# Altium footprint library Connector_PinHeader_2.54mm.PcbLib: 278 footprints (part 14 of 18)
Each footprint in its own frame and in the unit in brackets; x right, y up, seen from the top. Pads: shape width x height; smd on the part's side, far side on the other; paste and mask are expansions set on the pad; w line width, h text height; cw(c..) or ccw(c..) is an arc to the next point about the centre after c.
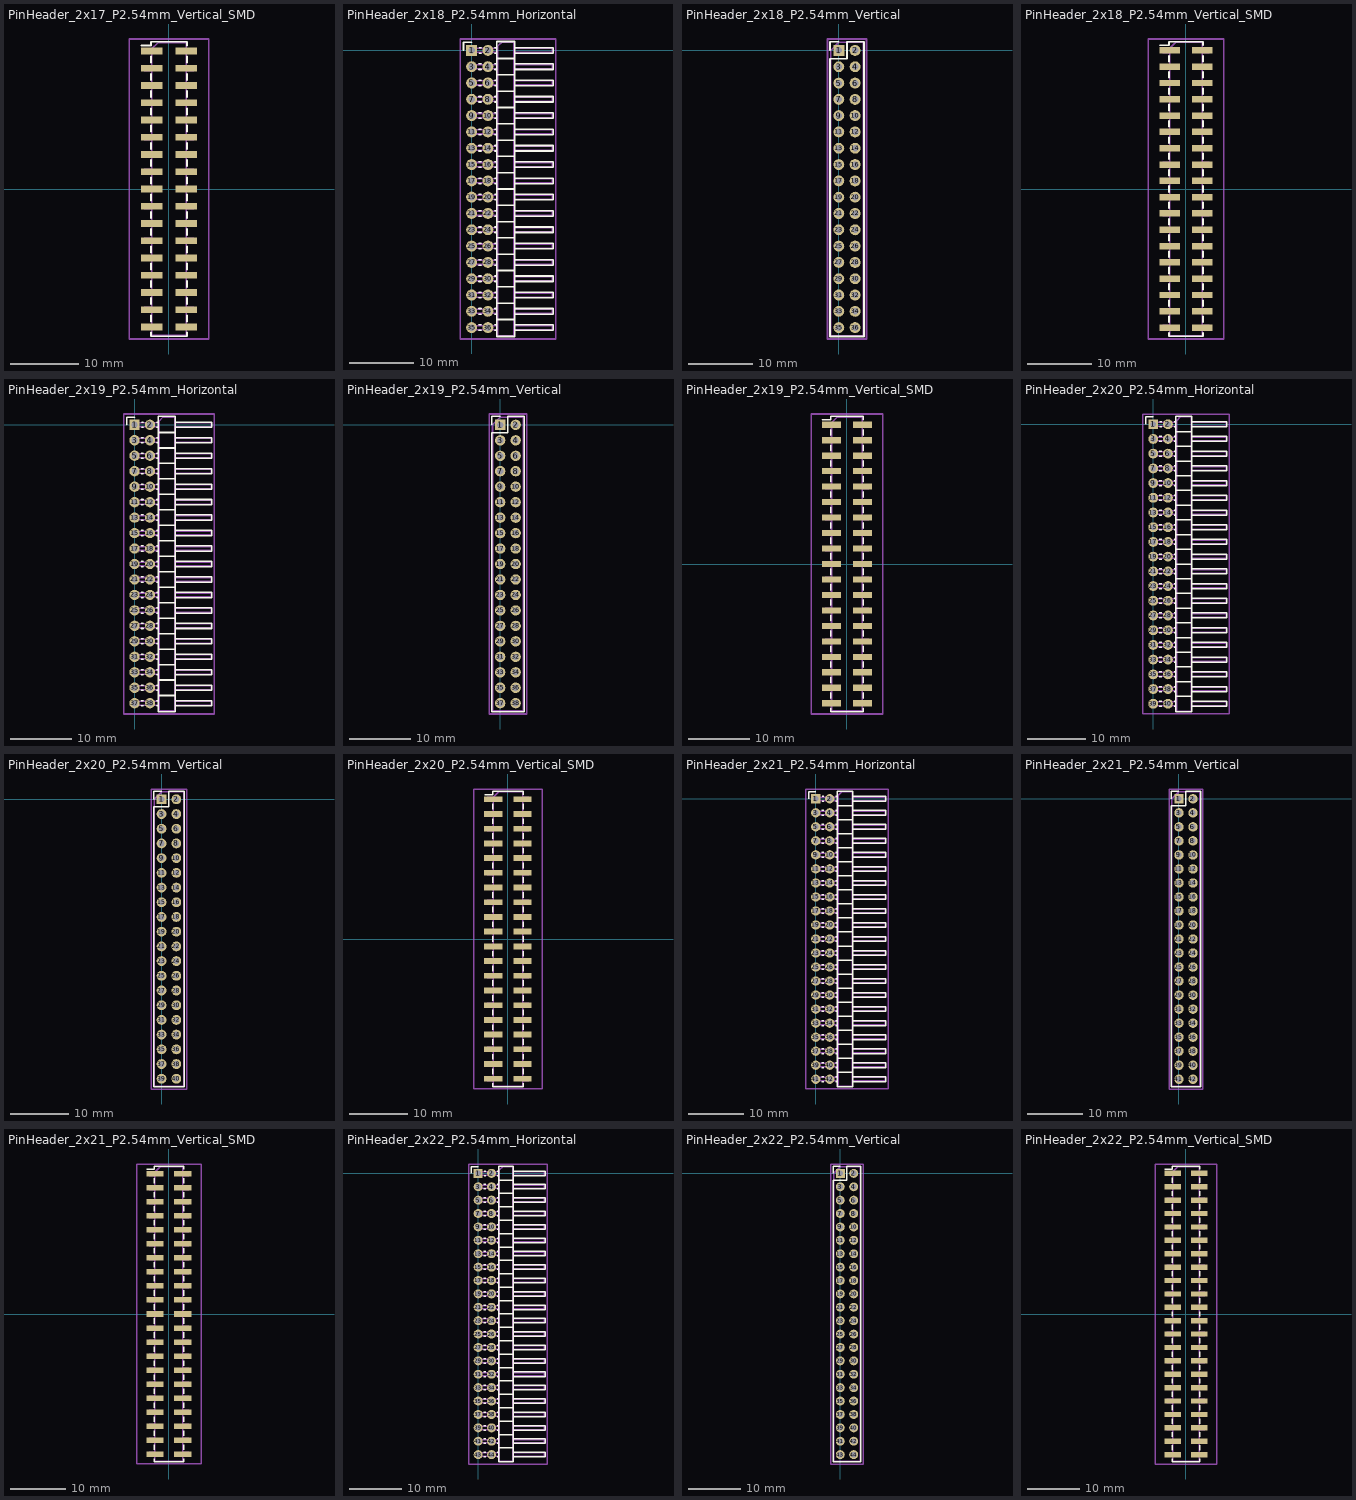
[diagram p13: the footprints below, top view; thin cyan lines are the x and y axes]

## PinHeader_2x17_P2.54mm_Vertical_SMD [mm]
pads (34):
  rect 3.15x1 smd: 1(-2.525,20.32) 2(2.525,20.32) 3(-2.525,17.78) 4(2.525,17.78) 5(-2.525,15.24) 6(2.525,15.24) 7(-2.525,12.7) 8(2.525,12.7) 9(-2.525,10.16) 10(2.525,10.16) 11(-2.525,7.62) 12(2.525,7.62) 13(-2.525,5.08) 14(2.525,5.08) 15(-2.525,2.54) 16(2.525,2.54) 17(-2.525,0) 18(2.525,0) 19(-2.525,-2.54) 20(2.525,-2.54) 21(-2.525,-5.08) 22(2.525,-5.08) 23(-2.525,-7.62) 24(2.525,-7.62) 25(-2.525,-10.16) 26(2.525,-10.16) 27(-2.525,-12.7) 28(2.525,-12.7) 29(-2.525,-15.24) 30(2.525,-15.24) 31(-2.525,-17.78) 32(2.525,-17.78) 33(-2.525,-20.32) 34(2.525,-20.32)
F.SilkS:
  lines w0.254: -4.04,21.13 -2.65,21.13 -2.65,21.7 2.65,21.7 2.65,21.13 ; -2.65,-21.13 -2.65,-21.7 2.65,-21.7 2.65,-21.13 ; -2.65,-19.51 -2.65,-18.59 ; -2.65,-16.97 -2.65,-16.05 ; -2.65,-14.43 -2.65,-13.51 ; -2.65,-11.89 -2.65,-10.97 ; -2.65,-9.35 -2.65,-8.43 ; -2.65,-6.81 -2.65,-5.89 ; -2.65,-4.27 -2.65,-3.35 ; -2.65,-1.73 -2.65,-0.81 ; -2.65,0.81 -2.65,1.73 ; -2.65,3.35 -2.65,4.27 ; -2.65,5.89 -2.65,6.81 ; -2.65,8.43 -2.65,9.35 ; -2.65,10.97 -2.65,11.89 ; -2.65,13.51 -2.65,14.43 ; -2.65,16.05 -2.65,16.97 ; -2.65,18.59 -2.65,19.51 ; 2.65,-19.51 2.65,-18.59 ; 2.65,-16.97 2.65,-16.05 ; 2.65,-14.43 2.65,-13.51 ; 2.65,-11.89 2.65,-10.97 ; 2.65,-9.35 2.65,-8.43 ; 2.65,-6.81 2.65,-5.89 ; 2.65,-4.27 2.65,-3.35 ; 2.65,-1.73 2.65,-0.81 ; 2.65,0.81 2.65,1.73 ; 2.65,3.35 2.65,4.27 ; 2.65,5.89 2.65,6.81 ; 2.65,8.43 2.65,9.35 ; 2.65,10.97 2.65,11.89 ; 2.65,13.51 2.65,14.43 ; 2.65,16.05 2.65,16.97 ; 2.65,18.59 2.65,19.51
Top Assembly:
  lines w0.254: -2.54,-20.64 -3.6,-20.64 -3.6,-20 -2.54,-20 ; -2.54,-18.1 -3.6,-18.1 -3.6,-17.46 -2.54,-17.46 ; -2.54,-15.56 -3.6,-15.56 -3.6,-14.92 -2.54,-14.92 ; -2.54,-13.02 -3.6,-13.02 -3.6,-12.38 -2.54,-12.38 ; -2.54,-10.48 -3.6,-10.48 -3.6,-9.84 -2.54,-9.84 ; -2.54,-7.94 -3.6,-7.94 -3.6,-7.3 -2.54,-7.3 ; -2.54,-5.4 -3.6,-5.4 -3.6,-4.76 -2.54,-4.76 ; -2.54,-2.86 -3.6,-2.86 -3.6,-2.22 -2.54,-2.22 ; -2.54,-0.32 -3.6,-0.32 -3.6,0.32 -2.54,0.32 ; -2.54,2.22 -3.6,2.22 -3.6,2.86 -2.54,2.86 ; -2.54,4.76 -3.6,4.76 -3.6,5.4 -2.54,5.4 ; -2.54,7.3 -3.6,7.3 -3.6,7.94 -2.54,7.94 ; -2.54,9.84 -3.6,9.84 -3.6,10.48 -2.54,10.48 ; -2.54,12.38 -3.6,12.38 -3.6,13.02 -2.54,13.02 ; -2.54,14.92 -3.6,14.92 -3.6,15.56 -2.54,15.56 ; -2.54,17.46 -3.6,17.46 -3.6,18.1 -2.54,18.1 ; -2.54,20 -3.6,20 -3.6,20.64 -2.54,20.64 ; 2.54,-20.64 3.6,-20.64 3.6,-20 2.54,-20 ; 2.54,-18.1 3.6,-18.1 3.6,-17.46 2.54,-17.46 ; 2.54,-15.56 3.6,-15.56 3.6,-14.92 2.54,-14.92 ; 2.54,-13.02 3.6,-13.02 3.6,-12.38 2.54,-12.38 ; 2.54,-10.48 3.6,-10.48 3.6,-9.84 2.54,-9.84 ; 2.54,-7.94 3.6,-7.94 3.6,-7.3 2.54,-7.3 ; 2.54,-5.4 3.6,-5.4 3.6,-4.76 2.54,-4.76 ; 2.54,-2.86 3.6,-2.86 3.6,-2.22 2.54,-2.22 ; 2.54,-0.32 3.6,-0.32 3.6,0.32 2.54,0.32 ; 2.54,2.22 3.6,2.22 3.6,2.86 2.54,2.86 ; 2.54,4.76 3.6,4.76 3.6,5.4 2.54,5.4 ; 2.54,7.3 3.6,7.3 3.6,7.94 2.54,7.94 ; 2.54,9.84 3.6,9.84 3.6,10.48 2.54,10.48 ; 2.54,12.38 3.6,12.38 3.6,13.02 2.54,13.02 ; 2.54,14.92 3.6,14.92 3.6,15.56 2.54,15.56 ; 2.54,17.46 3.6,17.46 3.6,18.1 2.54,18.1 ; 2.54,20 3.6,20 3.6,20.64 2.54,20.64 ; -2.54,20.64 -2.54,-21.59 2.54,-21.59 2.54,21.59 -1.59,21.59 -2.54,20.64
  text "'.Designator'" at 0.84,-4.047 h1
Top Courtyard:
  lines w0.254: -5.87,-22.1 5.88,-22.1 5.88,22.1 -5.87,22.1 -5.87,-22.1
Top Designator:
  text ".Designator" at -7.613,-0.508 h1.52

## PinHeader_2x18_P2.54mm_Horizontal [mm]
pads (36):
  rect 1.7x1.7 hole 1: 1(0,0)
  round 1.7 hole 1: 2(2.54,0) 3(0,-2.54) 4(2.54,-2.54) 5(0,-5.08) 6(2.54,-5.08) 7(0,-7.62) 8(2.54,-7.62) 9(0,-10.16) 10(2.54,-10.16) 11(0,-12.7) 12(2.54,-12.7) 13(0,-15.24) 14(2.54,-15.24) 15(0,-17.78) 16(2.54,-17.78) 17(0,-20.32) 18(2.54,-20.32) 19(0,-22.86) 20(2.54,-22.86) 21(0,-25.4) 22(2.54,-25.4) 23(0,-27.94) 24(2.54,-27.94) 25(0,-30.48) 26(2.54,-30.48) 27(0,-33.02) 28(2.54,-33.02) 29(0,-35.56) 30(2.54,-35.56) 31(0,-38.1) 32(2.54,-38.1) 33(0,-40.64) 34(2.54,-40.64) 35(0,-43.18) 36(2.54,-43.18)
F.SilkS:
  lines w0.254: -1.27,0 -1.27,1.27 0,1.27 ; 1.077,-43.61 1.463,-43.61 ; 1.077,-42.75 1.463,-42.75 ; 1.077,-41.07 1.463,-41.07 ; 1.077,-40.21 1.463,-40.21 ; 1.077,-38.53 1.463,-38.53 ; 1.077,-37.67 1.463,-37.67 ; 1.077,-35.99 1.463,-35.99 ; 1.077,-35.13 1.463,-35.13 ; 1.077,-33.45 1.463,-33.45 ; 1.077,-32.59 1.463,-32.59 ; 1.077,-30.91 1.463,-30.91 ; 1.077,-30.05 1.463,-30.05 ; 1.077,-28.37 1.463,-28.37 ; 1.077,-27.51 1.463,-27.51 ; 1.077,-25.83 1.463,-25.83 ; 1.077,-24.97 1.463,-24.97 ; 1.077,-23.29 1.463,-23.29 ; 1.077,-22.43 1.463,-22.43 ; 1.077,-20.75 1.463,-20.75 ; 1.077,-19.89 1.463,-19.89 ; 1.077,-18.21 1.463,-18.21 ; 1.077,-17.35 1.463,-17.35 ; 1.077,-15.67 1.463,-15.67 ; 1.077,-14.81 1.463,-14.81 ; 1.077,-13.13 1.463,-13.13 ; 1.077,-12.27 1.463,-12.27 ; 1.077,-10.59 1.463,-10.59 ; 1.077,-9.73 1.463,-9.73 ; 1.077,-8.05 1.463,-8.05 ; 1.077,-7.19 1.463,-7.19 ; 1.077,-5.51 1.463,-5.51 ; 1.077,-4.65 1.463,-4.65 ; 1.077,-2.97 1.463,-2.97 ; 1.077,-2.11 1.463,-2.11 ; 1.16,-0.43 1.463,-0.43 ; 1.16,0.43 1.463,0.43 ; 3.617,-43.61 3.93,-43.61 ; 3.617,-42.75 3.93,-42.75 ; 3.617,-41.07 3.93,-41.07 ; 3.617,-40.21 3.93,-40.21 ; 3.617,-38.53 3.93,-38.53 ; 3.617,-37.67 3.93,-37.67 ; 3.617,-35.99 3.93,-35.99 ; 3.617,-35.13 3.93,-35.13 ; 3.617,-33.45 3.93,-33.45 ; 3.617,-32.59 3.93,-32.59 ; 3.617,-30.91 3.93,-30.91 ; 3.617,-30.05 3.93,-30.05 ; 3.617,-28.37 3.93,-28.37 ; 3.617,-27.51 3.93,-27.51 ; 3.617,-25.83 3.93,-25.83 ; 3.617,-24.97 3.93,-24.97 ; 3.617,-23.29 3.93,-23.29 ; 3.617,-22.43 3.93,-22.43 ; 3.617,-20.75 3.93,-20.75 ; 3.617,-19.89 3.93,-19.89 ; 3.617,-18.21 3.93,-18.21 ; 3.617,-17.35 3.93,-17.35 ; 3.617,-15.67 3.93,-15.67 ; 3.617,-14.81 3.93,-14.81 ; 3.617,-13.13 3.93,-13.13 ; 3.617,-12.27 3.93,-12.27 ; 3.617,-10.59 3.93,-10.59 ; 3.617,-9.73 3.93,-9.73 ; 3.617,-8.05 3.93,-8.05 ; 3.617,-7.19 3.93,-7.19 ; 3.617,-5.51 3.93,-5.51 ; 3.617,-4.65 3.93,-4.65 ; 3.617,-2.97 3.93,-2.97 ; 3.617,-2.11 3.93,-2.11 ; 3.617,-0.43 3.93,-0.43 ; 3.617,0.43 3.93,0.43 ; 3.93,-41.91 6.69,-41.91 ; 3.93,-39.37 6.69,-39.37 ; 3.93,-36.83 6.69,-36.83 ; 3.93,-34.29 6.69,-34.29 ; 3.93,-31.75 6.69,-31.75 ; 3.93,-29.21 6.69,-29.21 ; 3.93,-26.67 6.69,-26.67 ; 3.93,-24.13 6.69,-24.13 ; 3.93,-21.59 6.69,-21.59 ; 3.93,-19.05 6.69,-19.05 ; 3.93,-16.51 6.69,-16.51 ; 3.93,-13.97 6.69,-13.97 ; 3.93,-11.43 6.69,-11.43 ; 3.93,-8.89 6.69,-8.89 ; 3.93,-6.35 6.69,-6.35 ; 3.93,-3.81 6.69,-3.81 ; 3.93,-1.27 6.69,-1.27 ; 6.69,-43.61 12.69,-43.61 12.69,-42.75 6.69,-42.75 ; 6.69,-41.07 12.69,-41.07 12.69,-40.21 6.69,-40.21 ; 6.69,-38.53 12.69,-38.53 12.69,-37.67 6.69,-37.67 ; 6.69,-35.99 12.69,-35.99 12.69,-35.13 6.69,-35.13 ; 6.69,-33.45 12.69,-33.45 12.69,-32.59 6.69,-32.59 ; 6.69,-30.91 12.69,-30.91 12.69,-30.05 6.69,-30.05 ; 6.69,-28.37 12.69,-28.37 12.69,-27.51 6.69,-27.51 ; 6.69,-25.83 12.69,-25.83 12.69,-24.97 6.69,-24.97 ; 6.69,-23.29 12.69,-23.29 12.69,-22.43 6.69,-22.43 ; 6.69,-20.75 12.69,-20.75 12.69,-19.89 6.69,-19.89 ; 6.69,-18.21 12.69,-18.21 12.69,-17.35 6.69,-17.35 ; 6.69,-15.67 12.69,-15.67 12.69,-14.81 6.69,-14.81 ; 6.69,-13.13 12.69,-13.13 12.69,-12.27 6.69,-12.27 ; 6.69,-10.59 12.69,-10.59 12.69,-9.73 6.69,-9.73 ; 6.69,-8.05 12.69,-8.05 12.69,-7.19 6.69,-7.19 ; 6.69,-5.51 12.69,-5.51 12.69,-4.65 6.69,-4.65 ; 6.69,-2.97 12.69,-2.97 12.69,-2.11 6.69,-2.11 ; 3.93,-44.56 6.69,-44.56 6.69,1.38 3.93,1.38 3.93,-44.56 ; 6.69,-0.43 12.69,-0.43 12.69,0.43 6.69,0.43 6.69,-0.43
Top Assembly:
  lines w0.254: 4.04,-43.5 -0.32,-43.5 -0.32,-42.86 4.04,-42.86 ; 4.04,-40.96 -0.32,-40.96 -0.32,-40.32 4.04,-40.32 ; 4.04,-38.42 -0.32,-38.42 -0.32,-37.78 4.04,-37.78 ; 4.04,-35.88 -0.32,-35.88 -0.32,-35.24 4.04,-35.24 ; 4.04,-33.34 -0.32,-33.34 -0.32,-32.7 4.04,-32.7 ; 4.04,-30.8 -0.32,-30.8 -0.32,-30.16 4.04,-30.16 ; 4.04,-28.26 -0.32,-28.26 -0.32,-27.62 4.04,-27.62 ; 4.04,-25.72 -0.32,-25.72 -0.32,-25.08 4.04,-25.08 ; 4.04,-23.18 -0.32,-23.18 -0.32,-22.54 4.04,-22.54 ; 4.04,-20.64 -0.32,-20.64 -0.32,-20 4.04,-20 ; 4.04,-18.1 -0.32,-18.1 -0.32,-17.46 4.04,-17.46 ; 4.04,-15.56 -0.32,-15.56 -0.32,-14.92 4.04,-14.92 ; 4.04,-13.02 -0.32,-13.02 -0.32,-12.38 4.04,-12.38 ; 4.04,-10.48 -0.32,-10.48 -0.32,-9.84 4.04,-9.84 ; 4.04,-7.94 -0.32,-7.94 -0.32,-7.3 4.04,-7.3 ; 4.04,-5.4 -0.32,-5.4 -0.32,-4.76 4.04,-4.76 ; 4.04,-2.86 -0.32,-2.86 -0.32,-2.22 4.04,-2.22 ; 4.04,-0.32 -0.32,-0.32 -0.32,0.32 4.04,0.32 ; 6.58,-43.5 12.58,-43.5 12.58,-42.86 6.58,-42.86 ; 6.58,-40.96 12.58,-40.96 12.58,-40.32 6.58,-40.32 ; 6.58,-38.42 12.58,-38.42 12.58,-37.78 6.58,-37.78 ; 6.58,-35.88 12.58,-35.88 12.58,-35.24 6.58,-35.24 ; 6.58,-33.34 12.58,-33.34 12.58,-32.7 6.58,-32.7 ; 6.58,-30.8 12.58,-30.8 12.58,-30.16 6.58,-30.16 ; 6.58,-28.26 12.58,-28.26 12.58,-27.62 6.58,-27.62 ; 6.58,-25.72 12.58,-25.72 12.58,-25.08 6.58,-25.08 ; 6.58,-23.18 12.58,-23.18 12.58,-22.54 6.58,-22.54 ; 6.58,-20.64 12.58,-20.64 12.58,-20 6.58,-20 ; 6.58,-18.1 12.58,-18.1 12.58,-17.46 6.58,-17.46 ; 6.58,-15.56 12.58,-15.56 12.58,-14.92 6.58,-14.92 ; 6.58,-13.02 12.58,-13.02 12.58,-12.38 6.58,-12.38 ; 6.58,-10.48 12.58,-10.48 12.58,-9.84 6.58,-9.84 ; 6.58,-7.94 12.58,-7.94 12.58,-7.3 6.58,-7.3 ; 6.58,-5.4 12.58,-5.4 12.58,-4.76 6.58,-4.76 ; 6.58,-2.86 12.58,-2.86 12.58,-2.22 6.58,-2.22 ; 6.58,-0.32 12.58,-0.32 12.58,0.32 6.58,0.32 ; 4.04,-44.45 6.58,-44.45 6.58,1.27 4.675,1.27 4.04,0.635 4.04,-44.45
  text "'.Designator'" at 6.15,-25.637 h1
Top Courtyard:
  lines w0.254: -1.77,-44.95 13.09,-44.95 13.09,1.77 -1.77,1.77 -1.77,-44.95
Top Designator:
  text ".Designator" at -1.958,-22.098 h1.52

## PinHeader_2x18_P2.54mm_Vertical [mm]
pads (36):
  rect 1.7x1.7 hole 1: 1(0,0)
  round 1.7 hole 1: 2(2.54,0) 3(0,-2.54) 4(2.54,-2.54) 5(0,-5.08) 6(2.54,-5.08) 7(0,-7.62) 8(2.54,-7.62) 9(0,-10.16) 10(2.54,-10.16) 11(0,-12.7) 12(2.54,-12.7) 13(0,-15.24) 14(2.54,-15.24) 15(0,-17.78) 16(2.54,-17.78) 17(0,-20.32) 18(2.54,-20.32) 19(0,-22.86) 20(2.54,-22.86) 21(0,-25.4) 22(2.54,-25.4) 23(0,-27.94) 24(2.54,-27.94) 25(0,-30.48) 26(2.54,-30.48) 27(0,-33.02) 28(2.54,-33.02) 29(0,-35.56) 30(2.54,-35.56) 31(0,-38.1) 32(2.54,-38.1) 33(0,-40.64) 34(2.54,-40.64) 35(0,-43.18) 36(2.54,-43.18)
F.SilkS:
  lines w0.254: -1.38,0 -1.38,1.38 0,1.38 ; -1.38,-44.56 3.92,-44.56 3.92,1.38 1.27,1.38 1.27,-1.27 -1.38,-1.27 -1.38,-44.56
Top Assembly:
  lines w0.254: -1.27,-44.45 3.81,-44.45 3.81,1.27 0,1.27 -1.27,0 -1.27,-44.45
  text "'.Designator'" at 2.11,-25.637 h1
Top Courtyard:
  lines w0.254: -1.77,-44.95 4.32,-44.95 4.32,1.78 -1.77,1.78 -1.77,-44.95
Top Designator:
  text ".Designator" at -6.343,-22.093 h1.52

## PinHeader_2x18_P2.54mm_Vertical_SMD [mm]
pads (36):
  rect 3.15x1 smd: 1(-2.525,21.59) 2(2.525,21.59) 3(-2.525,19.05) 4(2.525,19.05) 5(-2.525,16.51) 6(2.525,16.51) 7(-2.525,13.97) 8(2.525,13.97) 9(-2.525,11.43) 10(2.525,11.43) 11(-2.525,8.89) 12(2.525,8.89) 13(-2.525,6.35) 14(2.525,6.35) 15(-2.525,3.81) 16(2.525,3.81) 17(-2.525,1.27) 18(2.525,1.27) 19(-2.525,-1.27) 20(2.525,-1.27) 21(-2.525,-3.81) 22(2.525,-3.81) 23(-2.525,-6.35) 24(2.525,-6.35) 25(-2.525,-8.89) 26(2.525,-8.89) 27(-2.525,-11.43) 28(2.525,-11.43) 29(-2.525,-13.97) 30(2.525,-13.97) 31(-2.525,-16.51) 32(2.525,-16.51) 33(-2.525,-19.05) 34(2.525,-19.05) 35(-2.525,-21.59) 36(2.525,-21.59)
F.SilkS:
  lines w0.254: -4.04,22.4 -2.65,22.4 -2.65,22.97 2.65,22.97 2.65,22.4 ; -2.65,-22.4 -2.65,-22.97 2.65,-22.97 2.65,-22.4 ; -2.65,-20.78 -2.65,-19.86 ; -2.65,-18.24 -2.65,-17.32 ; -2.65,-15.7 -2.65,-14.78 ; -2.65,-13.16 -2.65,-12.24 ; -2.65,-10.62 -2.65,-9.7 ; -2.65,-8.08 -2.65,-7.16 ; -2.65,-5.54 -2.65,-4.62 ; -2.65,-3 -2.65,-2.08 ; -2.65,-0.46 -2.65,0.46 ; -2.65,2.08 -2.65,3 ; -2.65,4.62 -2.65,5.54 ; -2.65,7.16 -2.65,8.08 ; -2.65,9.7 -2.65,10.62 ; -2.65,12.24 -2.65,13.16 ; -2.65,14.78 -2.65,15.7 ; -2.65,17.32 -2.65,18.24 ; -2.65,19.86 -2.65,20.78 ; 2.65,-20.78 2.65,-19.86 ; 2.65,-18.24 2.65,-17.32 ; 2.65,-15.7 2.65,-14.78 ; 2.65,-13.16 2.65,-12.24 ; 2.65,-10.62 2.65,-9.7 ; 2.65,-8.08 2.65,-7.16 ; 2.65,-5.54 2.65,-4.62 ; 2.65,-3 2.65,-2.08 ; 2.65,-0.46 2.65,0.46 ; 2.65,2.08 2.65,3 ; 2.65,4.62 2.65,5.54 ; 2.65,7.16 2.65,8.08 ; 2.65,9.7 2.65,10.62 ; 2.65,12.24 2.65,13.16 ; 2.65,14.78 2.65,15.7 ; 2.65,17.32 2.65,18.24 ; 2.65,19.86 2.65,20.78
Top Assembly:
  lines w0.254: -2.54,-21.91 -3.6,-21.91 -3.6,-21.27 -2.54,-21.27 ; -2.54,-19.37 -3.6,-19.37 -3.6,-18.73 -2.54,-18.73 ; -2.54,-16.83 -3.6,-16.83 -3.6,-16.19 -2.54,-16.19 ; -2.54,-14.29 -3.6,-14.29 -3.6,-13.65 -2.54,-13.65 ; -2.54,-11.75 -3.6,-11.75 -3.6,-11.11 -2.54,-11.11 ; -2.54,-9.21 -3.6,-9.21 -3.6,-8.57 -2.54,-8.57 ; -2.54,-6.67 -3.6,-6.67 -3.6,-6.03 -2.54,-6.03 ; -2.54,-4.13 -3.6,-4.13 -3.6,-3.49 -2.54,-3.49 ; -2.54,-1.59 -3.6,-1.59 -3.6,-0.95 -2.54,-0.95 ; -2.54,0.95 -3.6,0.95 -3.6,1.59 -2.54,1.59 ; -2.54,3.49 -3.6,3.49 -3.6,4.13 -2.54,4.13 ; -2.54,6.03 -3.6,6.03 -3.6,6.67 -2.54,6.67 ; -2.54,8.57 -3.6,8.57 -3.6,9.21 -2.54,9.21 ; -2.54,11.11 -3.6,11.11 -3.6,11.75 -2.54,11.75 ; -2.54,13.65 -3.6,13.65 -3.6,14.29 -2.54,14.29 ; -2.54,16.19 -3.6,16.19 -3.6,16.83 -2.54,16.83 ; -2.54,18.73 -3.6,18.73 -3.6,19.37 -2.54,19.37 ; -2.54,21.27 -3.6,21.27 -3.6,21.91 -2.54,21.91 ; 2.54,-21.91 3.6,-21.91 3.6,-21.27 2.54,-21.27 ; 2.54,-19.37 3.6,-19.37 3.6,-18.73 2.54,-18.73 ; 2.54,-16.83 3.6,-16.83 3.6,-16.19 2.54,-16.19 ; 2.54,-14.29 3.6,-14.29 3.6,-13.65 2.54,-13.65 ; 2.54,-11.75 3.6,-11.75 3.6,-11.11 2.54,-11.11 ; 2.54,-9.21 3.6,-9.21 3.6,-8.57 2.54,-8.57 ; 2.54,-6.67 3.6,-6.67 3.6,-6.03 2.54,-6.03 ; 2.54,-4.13 3.6,-4.13 3.6,-3.49 2.54,-3.49 ; 2.54,-1.59 3.6,-1.59 3.6,-0.95 2.54,-0.95 ; 2.54,0.95 3.6,0.95 3.6,1.59 2.54,1.59 ; 2.54,3.49 3.6,3.49 3.6,4.13 2.54,4.13 ; 2.54,6.03 3.6,6.03 3.6,6.67 2.54,6.67 ; 2.54,8.57 3.6,8.57 3.6,9.21 2.54,9.21 ; 2.54,11.11 3.6,11.11 3.6,11.75 2.54,11.75 ; 2.54,13.65 3.6,13.65 3.6,14.29 2.54,14.29 ; 2.54,16.19 3.6,16.19 3.6,16.83 2.54,16.83 ; 2.54,18.73 3.6,18.73 3.6,19.37 2.54,19.37 ; 2.54,21.27 3.6,21.27 3.6,21.91 2.54,21.91 ; -2.54,21.91 -2.54,-22.86 2.54,-22.86 2.54,22.86 -1.59,22.86 -2.54,21.91
  text "'.Designator'" at 0.84,-4.047 h1
Top Courtyard:
  lines w0.254: -5.87,-23.37 5.88,-23.37 5.88,23.37 -5.87,23.37 -5.87,-23.37
Top Designator:
  text ".Designator" at -7.613,-0.508 h1.52

## PinHeader_2x19_P2.54mm_Horizontal [mm]
pads (38):
  rect 1.7x1.7 hole 1: 1(0,0)
  round 1.7 hole 1: 2(2.54,0) 3(0,-2.54) 4(2.54,-2.54) 5(0,-5.08) 6(2.54,-5.08) 7(0,-7.62) 8(2.54,-7.62) 9(0,-10.16) 10(2.54,-10.16) 11(0,-12.7) 12(2.54,-12.7) 13(0,-15.24) 14(2.54,-15.24) 15(0,-17.78) 16(2.54,-17.78) 17(0,-20.32) 18(2.54,-20.32) 19(0,-22.86) 20(2.54,-22.86) 21(0,-25.4) 22(2.54,-25.4) 23(0,-27.94) 24(2.54,-27.94) 25(0,-30.48) 26(2.54,-30.48) 27(0,-33.02) 28(2.54,-33.02) 29(0,-35.56) 30(2.54,-35.56) 31(0,-38.1) 32(2.54,-38.1) 33(0,-40.64) 34(2.54,-40.64) 35(0,-43.18) 36(2.54,-43.18) 37(0,-45.72) 38(2.54,-45.72)
F.SilkS:
  drawing of 158 lines, arcs and shapes, not listed
Top Assembly:
  lines w0.254: 4.04,-46.04 -0.32,-46.04 -0.32,-45.4 4.04,-45.4 ; 4.04,-43.5 -0.32,-43.5 -0.32,-42.86 4.04,-42.86 ; 4.04,-40.96 -0.32,-40.96 -0.32,-40.32 4.04,-40.32 ; 4.04,-38.42 -0.32,-38.42 -0.32,-37.78 4.04,-37.78 ; 4.04,-35.88 -0.32,-35.88 -0.32,-35.24 4.04,-35.24 ; 4.04,-33.34 -0.32,-33.34 -0.32,-32.7 4.04,-32.7 ; 4.04,-30.8 -0.32,-30.8 -0.32,-30.16 4.04,-30.16 ; 4.04,-28.26 -0.32,-28.26 -0.32,-27.62 4.04,-27.62 ; 4.04,-25.72 -0.32,-25.72 -0.32,-25.08 4.04,-25.08 ; 4.04,-23.18 -0.32,-23.18 -0.32,-22.54 4.04,-22.54 ; 4.04,-20.64 -0.32,-20.64 -0.32,-20 4.04,-20 ; 4.04,-18.1 -0.32,-18.1 -0.32,-17.46 4.04,-17.46 ; 4.04,-15.56 -0.32,-15.56 -0.32,-14.92 4.04,-14.92 ; 4.04,-13.02 -0.32,-13.02 -0.32,-12.38 4.04,-12.38 ; 4.04,-10.48 -0.32,-10.48 -0.32,-9.84 4.04,-9.84 ; 4.04,-7.94 -0.32,-7.94 -0.32,-7.3 4.04,-7.3 ; 4.04,-5.4 -0.32,-5.4 -0.32,-4.76 4.04,-4.76 ; 4.04,-2.86 -0.32,-2.86 -0.32,-2.22 4.04,-2.22 ; 4.04,-0.32 -0.32,-0.32 -0.32,0.32 4.04,0.32 ; 6.58,-46.04 12.58,-46.04 12.58,-45.4 6.58,-45.4 ; 6.58,-43.5 12.58,-43.5 12.58,-42.86 6.58,-42.86 ; 6.58,-40.96 12.58,-40.96 12.58,-40.32 6.58,-40.32 ; 6.58,-38.42 12.58,-38.42 12.58,-37.78 6.58,-37.78 ; 6.58,-35.88 12.58,-35.88 12.58,-35.24 6.58,-35.24 ; 6.58,-33.34 12.58,-33.34 12.58,-32.7 6.58,-32.7 ; 6.58,-30.8 12.58,-30.8 12.58,-30.16 6.58,-30.16 ; 6.58,-28.26 12.58,-28.26 12.58,-27.62 6.58,-27.62 ; 6.58,-25.72 12.58,-25.72 12.58,-25.08 6.58,-25.08 ; 6.58,-23.18 12.58,-23.18 12.58,-22.54 6.58,-22.54 ; 6.58,-20.64 12.58,-20.64 12.58,-20 6.58,-20 ; 6.58,-18.1 12.58,-18.1 12.58,-17.46 6.58,-17.46 ; 6.58,-15.56 12.58,-15.56 12.58,-14.92 6.58,-14.92 ; 6.58,-13.02 12.58,-13.02 12.58,-12.38 6.58,-12.38 ; 6.58,-10.48 12.58,-10.48 12.58,-9.84 6.58,-9.84 ; 6.58,-7.94 12.58,-7.94 12.58,-7.3 6.58,-7.3 ; 6.58,-5.4 12.58,-5.4 12.58,-4.76 6.58,-4.76 ; 6.58,-2.86 12.58,-2.86 12.58,-2.22 6.58,-2.22 ; 6.58,-0.32 12.58,-0.32 12.58,0.32 6.58,0.32 ; 4.04,-46.99 6.58,-46.99 6.58,1.27 4.675,1.27 4.04,0.635 4.04,-46.99
  text "'.Designator'" at 6.15,-26.907 h1
Top Courtyard:
  lines w0.254: -1.77,-47.49 13.09,-47.49 13.09,1.77 -1.77,1.77 -1.77,-47.49
Top Designator:
  text ".Designator" at -1.958,-23.368 h1.52

## PinHeader_2x19_P2.54mm_Vertical [mm]
pads (38):
  rect 1.7x1.7 hole 1: 1(0,0)
  round 1.7 hole 1: 2(2.54,0) 3(0,-2.54) 4(2.54,-2.54) 5(0,-5.08) 6(2.54,-5.08) 7(0,-7.62) 8(2.54,-7.62) 9(0,-10.16) 10(2.54,-10.16) 11(0,-12.7) 12(2.54,-12.7) 13(0,-15.24) 14(2.54,-15.24) 15(0,-17.78) 16(2.54,-17.78) 17(0,-20.32) 18(2.54,-20.32) 19(0,-22.86) 20(2.54,-22.86) 21(0,-25.4) 22(2.54,-25.4) 23(0,-27.94) 24(2.54,-27.94) 25(0,-30.48) 26(2.54,-30.48) 27(0,-33.02) 28(2.54,-33.02) 29(0,-35.56) 30(2.54,-35.56) 31(0,-38.1) 32(2.54,-38.1) 33(0,-40.64) 34(2.54,-40.64) 35(0,-43.18) 36(2.54,-43.18) 37(0,-45.72) 38(2.54,-45.72)
F.SilkS:
  lines w0.254: -1.38,0 -1.38,1.38 0,1.38 ; -1.38,-47.1 3.92,-47.1 3.92,1.38 1.27,1.38 1.27,-1.27 -1.38,-1.27 -1.38,-47.1
Top Assembly:
  lines w0.254: -1.27,-46.99 3.81,-46.99 3.81,1.27 0,1.27 -1.27,0 -1.27,-46.99
  text "'.Designator'" at 2.11,-26.907 h1
Top Courtyard:
  lines w0.254: -1.77,-47.49 4.32,-47.49 4.32,1.78 -1.77,1.78 -1.77,-47.49
Top Designator:
  text ".Designator" at -6.343,-23.363 h1.52

## PinHeader_2x19_P2.54mm_Vertical_SMD [mm]
pads (38):
  rect 3.15x1 smd: 1(-2.525,22.86) 2(2.525,22.86) 3(-2.525,20.32) 4(2.525,20.32) 5(-2.525,17.78) 6(2.525,17.78) 7(-2.525,15.24) 8(2.525,15.24) 9(-2.525,12.7) 10(2.525,12.7) 11(-2.525,10.16) 12(2.525,10.16) 13(-2.525,7.62) 14(2.525,7.62) 15(-2.525,5.08) 16(2.525,5.08) 17(-2.525,2.54) 18(2.525,2.54) 19(-2.525,0) 20(2.525,0) 21(-2.525,-2.54) 22(2.525,-2.54) 23(-2.525,-5.08) 24(2.525,-5.08) 25(-2.525,-7.62) 26(2.525,-7.62) 27(-2.525,-10.16) 28(2.525,-10.16) 29(-2.525,-12.7) 30(2.525,-12.7) 31(-2.525,-15.24) 32(2.525,-15.24) 33(-2.525,-17.78) 34(2.525,-17.78) 35(-2.525,-20.32) 36(2.525,-20.32) 37(-2.525,-22.86) 38(2.525,-22.86)
F.SilkS:
  lines w0.254: -4.04,23.67 -2.65,23.67 -2.65,24.24 2.65,24.24 2.65,23.67 ; -2.65,-23.67 -2.65,-24.24 2.65,-24.24 2.65,-23.67 ; -2.65,-22.05 -2.65,-21.13 ; -2.65,-19.51 -2.65,-18.59 ; -2.65,-16.97 -2.65,-16.05 ; -2.65,-14.43 -2.65,-13.51 ; -2.65,-11.89 -2.65,-10.97 ; -2.65,-9.35 -2.65,-8.43 ; -2.65,-6.81 -2.65,-5.89 ; -2.65,-4.27 -2.65,-3.35 ; -2.65,-1.73 -2.65,-0.81 ; -2.65,0.81 -2.65,1.73 ; -2.65,3.35 -2.65,4.27 ; -2.65,5.89 -2.65,6.81 ; -2.65,8.43 -2.65,9.35 ; -2.65,10.97 -2.65,11.89 ; -2.65,13.51 -2.65,14.43 ; -2.65,16.05 -2.65,16.97 ; -2.65,18.59 -2.65,19.51 ; -2.65,21.13 -2.65,22.05 ; 2.65,-22.05 2.65,-21.13 ; 2.65,-19.51 2.65,-18.59 ; 2.65,-16.97 2.65,-16.05 ; 2.65,-14.43 2.65,-13.51 ; 2.65,-11.89 2.65,-10.97 ; 2.65,-9.35 2.65,-8.43 ; 2.65,-6.81 2.65,-5.89 ; 2.65,-4.27 2.65,-3.35 ; 2.65,-1.73 2.65,-0.81 ; 2.65,0.81 2.65,1.73 ; 2.65,3.35 2.65,4.27 ; 2.65,5.89 2.65,6.81 ; 2.65,8.43 2.65,9.35 ; 2.65,10.97 2.65,11.89 ; 2.65,13.51 2.65,14.43 ; 2.65,16.05 2.65,16.97 ; 2.65,18.59 2.65,19.51 ; 2.65,21.13 2.65,22.05
Top Assembly:
  lines w0.254: -2.54,-23.18 -3.6,-23.18 -3.6,-22.54 -2.54,-22.54 ; -2.54,-20.64 -3.6,-20.64 -3.6,-20 -2.54,-20 ; -2.54,-18.1 -3.6,-18.1 -3.6,-17.46 -2.54,-17.46 ; -2.54,-15.56 -3.6,-15.56 -3.6,-14.92 -2.54,-14.92 ; -2.54,-13.02 -3.6,-13.02 -3.6,-12.38 -2.54,-12.38 ; -2.54,-10.48 -3.6,-10.48 -3.6,-9.84 -2.54,-9.84 ; -2.54,-7.94 -3.6,-7.94 -3.6,-7.3 -2.54,-7.3 ; -2.54,-5.4 -3.6,-5.4 -3.6,-4.76 -2.54,-4.76 ; -2.54,-2.86 -3.6,-2.86 -3.6,-2.22 -2.54,-2.22 ; -2.54,-0.32 -3.6,-0.32 -3.6,0.32 -2.54,0.32 ; -2.54,2.22 -3.6,2.22 -3.6,2.86 -2.54,2.86 ; -2.54,4.76 -3.6,4.76 -3.6,5.4 -2.54,5.4 ; -2.54,7.3 -3.6,7.3 -3.6,7.94 -2.54,7.94 ; -2.54,9.84 -3.6,9.84 -3.6,10.48 -2.54,10.48 ; -2.54,12.38 -3.6,12.38 -3.6,13.02 -2.54,13.02 ; -2.54,14.92 -3.6,14.92 -3.6,15.56 -2.54,15.56 ; -2.54,17.46 -3.6,17.46 -3.6,18.1 -2.54,18.1 ; -2.54,20 -3.6,20 -3.6,20.64 -2.54,20.64 ; -2.54,22.54 -3.6,22.54 -3.6,23.18 -2.54,23.18 ; 2.54,-23.18 3.6,-23.18 3.6,-22.54 2.54,-22.54 ; 2.54,-20.64 3.6,-20.64 3.6,-20 2.54,-20 ; 2.54,-18.1 3.6,-18.1 3.6,-17.46 2.54,-17.46 ; 2.54,-15.56 3.6,-15.56 3.6,-14.92 2.54,-14.92 ; 2.54,-13.02 3.6,-13.02 3.6,-12.38 2.54,-12.38 ; 2.54,-10.48 3.6,-10.48 3.6,-9.84 2.54,-9.84 ; 2.54,-7.94 3.6,-7.94 3.6,-7.3 2.54,-7.3 ; 2.54,-5.4 3.6,-5.4 3.6,-4.76 2.54,-4.76 ; 2.54,-2.86 3.6,-2.86 3.6,-2.22 2.54,-2.22 ; 2.54,-0.32 3.6,-0.32 3.6,0.32 2.54,0.32 ; 2.54,2.22 3.6,2.22 3.6,2.86 2.54,2.86 ; 2.54,4.76 3.6,4.76 3.6,5.4 2.54,5.4 ; 2.54,7.3 3.6,7.3 3.6,7.94 2.54,7.94 ; 2.54,9.84 3.6,9.84 3.6,10.48 2.54,10.48 ; 2.54,12.38 3.6,12.38 3.6,13.02 2.54,13.02 ; 2.54,14.92 3.6,14.92 3.6,15.56 2.54,15.56 ; 2.54,17.46 3.6,17.46 3.6,18.1 2.54,18.1 ; 2.54,20 3.6,20 3.6,20.64 2.54,20.64 ; 2.54,22.54 3.6,22.54 3.6,23.18 2.54,23.18 ; -2.54,23.18 -2.54,-24.13 2.54,-24.13 2.54,24.13 -1.59,24.13 -2.54,23.18
  text "'.Designator'" at 0.84,-4.047 h1
Top Courtyard:
  lines w0.254: -5.87,-24.63 5.88,-24.63 5.88,24.63 -5.87,24.63 -5.87,-24.63
Top Designator:
  text ".Designator" at -7.613,-0.508 h1.52

## PinHeader_2x20_P2.54mm_Horizontal [mm]
pads (40):
  rect 1.7x1.7 hole 1: 1(0,0)
  round 1.7 hole 1: 2(2.54,0) 3(0,-2.54) 4(2.54,-2.54) 5(0,-5.08) 6(2.54,-5.08) 7(0,-7.62) 8(2.54,-7.62) 9(0,-10.16) 10(2.54,-10.16) 11(0,-12.7) 12(2.54,-12.7) 13(0,-15.24) 14(2.54,-15.24) 15(0,-17.78) 16(2.54,-17.78) 17(0,-20.32) 18(2.54,-20.32) 19(0,-22.86) 20(2.54,-22.86) 21(0,-25.4) 22(2.54,-25.4) 23(0,-27.94) 24(2.54,-27.94) 25(0,-30.48) 26(2.54,-30.48) 27(0,-33.02) 28(2.54,-33.02) 29(0,-35.56) 30(2.54,-35.56) 31(0,-38.1) 32(2.54,-38.1) 33(0,-40.64) 34(2.54,-40.64) 35(0,-43.18) 36(2.54,-43.18) 37(0,-45.72) 38(2.54,-45.72) 39(0,-48.26) 40(2.54,-48.26)
F.SilkS:
  drawing of 166 lines, arcs and shapes, not listed
Top Assembly:
  lines w0.254: 4.04,-48.58 -0.32,-48.58 -0.32,-47.94 4.04,-47.94 ; 4.04,-46.04 -0.32,-46.04 -0.32,-45.4 4.04,-45.4 ; 4.04,-43.5 -0.32,-43.5 -0.32,-42.86 4.04,-42.86 ; 4.04,-40.96 -0.32,-40.96 -0.32,-40.32 4.04,-40.32 ; 4.04,-38.42 -0.32,-38.42 -0.32,-37.78 4.04,-37.78 ; 4.04,-35.88 -0.32,-35.88 -0.32,-35.24 4.04,-35.24 ; 4.04,-33.34 -0.32,-33.34 -0.32,-32.7 4.04,-32.7 ; 4.04,-30.8 -0.32,-30.8 -0.32,-30.16 4.04,-30.16 ; 4.04,-28.26 -0.32,-28.26 -0.32,-27.62 4.04,-27.62 ; 4.04,-25.72 -0.32,-25.72 -0.32,-25.08 4.04,-25.08 ; 4.04,-23.18 -0.32,-23.18 -0.32,-22.54 4.04,-22.54 ; 4.04,-20.64 -0.32,-20.64 -0.32,-20 4.04,-20 ; 4.04,-18.1 -0.32,-18.1 -0.32,-17.46 4.04,-17.46 ; 4.04,-15.56 -0.32,-15.56 -0.32,-14.92 4.04,-14.92 ; 4.04,-13.02 -0.32,-13.02 -0.32,-12.38 4.04,-12.38 ; 4.04,-10.48 -0.32,-10.48 -0.32,-9.84 4.04,-9.84 ; 4.04,-7.94 -0.32,-7.94 -0.32,-7.3 4.04,-7.3 ; 4.04,-5.4 -0.32,-5.4 -0.32,-4.76 4.04,-4.76 ; 4.04,-2.86 -0.32,-2.86 -0.32,-2.22 4.04,-2.22 ; 4.04,-0.32 -0.32,-0.32 -0.32,0.32 4.04,0.32 ; 6.58,-48.58 12.58,-48.58 12.58,-47.94 6.58,-47.94 ; 6.58,-46.04 12.58,-46.04 12.58,-45.4 6.58,-45.4 ; 6.58,-43.5 12.58,-43.5 12.58,-42.86 6.58,-42.86 ; 6.58,-40.96 12.58,-40.96 12.58,-40.32 6.58,-40.32 ; 6.58,-38.42 12.58,-38.42 12.58,-37.78 6.58,-37.78 ; 6.58,-35.88 12.58,-35.88 12.58,-35.24 6.58,-35.24 ; 6.58,-33.34 12.58,-33.34 12.58,-32.7 6.58,-32.7 ; 6.58,-30.8 12.58,-30.8 12.58,-30.16 6.58,-30.16 ; 6.58,-28.26 12.58,-28.26 12.58,-27.62 6.58,-27.62 ; 6.58,-25.72 12.58,-25.72 12.58,-25.08 6.58,-25.08 ; 6.58,-23.18 12.58,-23.18 12.58,-22.54 6.58,-22.54 ; 6.58,-20.64 12.58,-20.64 12.58,-20 6.58,-20 ; 6.58,-18.1 12.58,-18.1 12.58,-17.46 6.58,-17.46 ; 6.58,-15.56 12.58,-15.56 12.58,-14.92 6.58,-14.92 ; 6.58,-13.02 12.58,-13.02 12.58,-12.38 6.58,-12.38 ; 6.58,-10.48 12.58,-10.48 12.58,-9.84 6.58,-9.84 ; 6.58,-7.94 12.58,-7.94 12.58,-7.3 6.58,-7.3 ; 6.58,-5.4 12.58,-5.4 12.58,-4.76 6.58,-4.76 ; 6.58,-2.86 12.58,-2.86 12.58,-2.22 6.58,-2.22 ; 6.58,-0.32 12.58,-0.32 12.58,0.32 6.58,0.32 ; 4.04,-49.53 6.58,-49.53 6.58,1.27 4.675,1.27 4.04,0.635 4.04,-49.53
  text "'.Designator'" at 6.15,-28.177 h1
Top Courtyard:
  lines w0.254: -1.77,-50.03 13.09,-50.03 13.09,1.77 -1.77,1.77 -1.77,-50.03
Top Designator:
  text ".Designator" at -1.958,-24.638 h1.52

## PinHeader_2x20_P2.54mm_Vertical [mm]
pads (40):
  rect 1.7x1.7 hole 1: 1(0,0)
  round 1.7 hole 1: 2(2.54,0) 3(0,-2.54) 4(2.54,-2.54) 5(0,-5.08) 6(2.54,-5.08) 7(0,-7.62) 8(2.54,-7.62) 9(0,-10.16) 10(2.54,-10.16) 11(0,-12.7) 12(2.54,-12.7) 13(0,-15.24) 14(2.54,-15.24) 15(0,-17.78) 16(2.54,-17.78) 17(0,-20.32) 18(2.54,-20.32) 19(0,-22.86) 20(2.54,-22.86) 21(0,-25.4) 22(2.54,-25.4) 23(0,-27.94) 24(2.54,-27.94) 25(0,-30.48) 26(2.54,-30.48) 27(0,-33.02) 28(2.54,-33.02) 29(0,-35.56) 30(2.54,-35.56) 31(0,-38.1) 32(2.54,-38.1) 33(0,-40.64) 34(2.54,-40.64) 35(0,-43.18) 36(2.54,-43.18) 37(0,-45.72) 38(2.54,-45.72) 39(0,-48.26) 40(2.54,-48.26)
F.SilkS:
  lines w0.254: -1.38,0 -1.38,1.38 0,1.38 ; -1.38,-49.64 3.92,-49.64 3.92,1.38 1.27,1.38 1.27,-1.27 -1.38,-1.27 -1.38,-49.64
Top Assembly:
  lines w0.254: -1.27,-49.53 3.81,-49.53 3.81,1.27 0,1.27 -1.27,0 -1.27,-49.53
  text "'.Designator'" at 2.11,-28.177 h1
Top Courtyard:
  lines w0.254: -1.77,-50.03 4.32,-50.03 4.32,1.78 -1.77,1.78 -1.77,-50.03
Top Designator:
  text ".Designator" at -6.343,-24.633 h1.52

## PinHeader_2x20_P2.54mm_Vertical_SMD [mm]
pads (40):
  rect 3.15x1 smd: 1(-2.525,24.13) 2(2.525,24.13) 3(-2.525,21.59) 4(2.525,21.59) 5(-2.525,19.05) 6(2.525,19.05) 7(-2.525,16.51) 8(2.525,16.51) 9(-2.525,13.97) 10(2.525,13.97) 11(-2.525,11.43) 12(2.525,11.43) 13(-2.525,8.89) 14(2.525,8.89) 15(-2.525,6.35) 16(2.525,6.35) 17(-2.525,3.81) 18(2.525,3.81) 19(-2.525,1.27) 20(2.525,1.27) 21(-2.525,-1.27) 22(2.525,-1.27) 23(-2.525,-3.81) 24(2.525,-3.81) 25(-2.525,-6.35) 26(2.525,-6.35) 27(-2.525,-8.89) 28(2.525,-8.89) 29(-2.525,-11.43) 30(2.525,-11.43) 31(-2.525,-13.97) 32(2.525,-13.97) 33(-2.525,-16.51) 34(2.525,-16.51) 35(-2.525,-19.05) 36(2.525,-19.05) 37(-2.525,-21.59) 38(2.525,-21.59) 39(-2.525,-24.13) 40(2.525,-24.13)
F.SilkS:
  lines w0.254: -4.04,24.94 -2.65,24.94 -2.65,25.51 2.65,25.51 2.65,24.94 ; -2.65,-24.94 -2.65,-25.51 2.65,-25.51 2.65,-24.94 ; -2.65,-23.32 -2.65,-22.4 ; -2.65,-20.78 -2.65,-19.86 ; -2.65,-18.24 -2.65,-17.32 ; -2.65,-15.7 -2.65,-14.78 ; -2.65,-13.16 -2.65,-12.24 ; -2.65,-10.62 -2.65,-9.7 ; -2.65,-8.08 -2.65,-7.16 ; -2.65,-5.54 -2.65,-4.62 ; -2.65,-3 -2.65,-2.08 ; -2.65,-0.46 -2.65,0.46 ; -2.65,2.08 -2.65,3 ; -2.65,4.62 -2.65,5.54 ; -2.65,7.16 -2.65,8.08 ; -2.65,9.7 -2.65,10.62 ; -2.65,12.24 -2.65,13.16 ; -2.65,14.78 -2.65,15.7 ; -2.65,17.32 -2.65,18.24 ; -2.65,19.86 -2.65,20.78 ; -2.65,22.4 -2.65,23.32 ; 2.65,-23.32 2.65,-22.4 ; 2.65,-20.78 2.65,-19.86 ; 2.65,-18.24 2.65,-17.32 ; 2.65,-15.7 2.65,-14.78 ; 2.65,-13.16 2.65,-12.24 ; 2.65,-10.62 2.65,-9.7 ; 2.65,-8.08 2.65,-7.16 ; 2.65,-5.54 2.65,-4.62 ; 2.65,-3 2.65,-2.08 ; 2.65,-0.46 2.65,0.46 ; 2.65,2.08 2.65,3 ; 2.65,4.62 2.65,5.54 ; 2.65,7.16 2.65,8.08 ; 2.65,9.7 2.65,10.62 ; 2.65,12.24 2.65,13.16 ; 2.65,14.78 2.65,15.7 ; 2.65,17.32 2.65,18.24 ; 2.65,19.86 2.65,20.78 ; 2.65,22.4 2.65,23.32
Top Assembly:
  lines w0.254: -2.54,-24.45 -3.6,-24.45 -3.6,-23.81 -2.54,-23.81 ; -2.54,-21.91 -3.6,-21.91 -3.6,-21.27 -2.54,-21.27 ; -2.54,-19.37 -3.6,-19.37 -3.6,-18.73 -2.54,-18.73 ; -2.54,-16.83 -3.6,-16.83 -3.6,-16.19 -2.54,-16.19 ; -2.54,-14.29 -3.6,-14.29 -3.6,-13.65 -2.54,-13.65 ; -2.54,-11.75 -3.6,-11.75 -3.6,-11.11 -2.54,-11.11 ; -2.54,-9.21 -3.6,-9.21 -3.6,-8.57 -2.54,-8.57 ; -2.54,-6.67 -3.6,-6.67 -3.6,-6.03 -2.54,-6.03 ; -2.54,-4.13 -3.6,-4.13 -3.6,-3.49 -2.54,-3.49 ; -2.54,-1.59 -3.6,-1.59 -3.6,-0.95 -2.54,-0.95 ; -2.54,0.95 -3.6,0.95 -3.6,1.59 -2.54,1.59 ; -2.54,3.49 -3.6,3.49 -3.6,4.13 -2.54,4.13 ; -2.54,6.03 -3.6,6.03 -3.6,6.67 -2.54,6.67 ; -2.54,8.57 -3.6,8.57 -3.6,9.21 -2.54,9.21 ; -2.54,11.11 -3.6,11.11 -3.6,11.75 -2.54,11.75 ; -2.54,13.65 -3.6,13.65 -3.6,14.29 -2.54,14.29 ; -2.54,16.19 -3.6,16.19 -3.6,16.83 -2.54,16.83 ; -2.54,18.73 -3.6,18.73 -3.6,19.37 -2.54,19.37 ; -2.54,21.27 -3.6,21.27 -3.6,21.91 -2.54,21.91 ; -2.54,23.81 -3.6,23.81 -3.6,24.45 -2.54,24.45 ; 2.54,-24.45 3.6,-24.45 3.6,-23.81 2.54,-23.81 ; 2.54,-21.91 3.6,-21.91 3.6,-21.27 2.54,-21.27 ; 2.54,-19.37 3.6,-19.37 3.6,-18.73 2.54,-18.73 ; 2.54,-16.83 3.6,-16.83 3.6,-16.19 2.54,-16.19 ; 2.54,-14.29 3.6,-14.29 3.6,-13.65 2.54,-13.65 ; 2.54,-11.75 3.6,-11.75 3.6,-11.11 2.54,-11.11 ; 2.54,-9.21 3.6,-9.21 3.6,-8.57 2.54,-8.57 ; 2.54,-6.67 3.6,-6.67 3.6,-6.03 2.54,-6.03 ; 2.54,-4.13 3.6,-4.13 3.6,-3.49 2.54,-3.49 ; 2.54,-1.59 3.6,-1.59 3.6,-0.95 2.54,-0.95 ; 2.54,0.95 3.6,0.95 3.6,1.59 2.54,1.59 ; 2.54,3.49 3.6,3.49 3.6,4.13 2.54,4.13 ; 2.54,6.03 3.6,6.03 3.6,6.67 2.54,6.67 ; 2.54,8.57 3.6,8.57 3.6,9.21 2.54,9.21 ; 2.54,11.11 3.6,11.11 3.6,11.75 2.54,11.75 ; 2.54,13.65 3.6,13.65 3.6,14.29 2.54,14.29 ; 2.54,16.19 3.6,16.19 3.6,16.83 2.54,16.83 ; 2.54,18.73 3.6,18.73 3.6,19.37 2.54,19.37 ; 2.54,21.27 3.6,21.27 3.6,21.91 2.54,21.91 ; 2.54,23.81 3.6,23.81 3.6,24.45 2.54,24.45 ; -2.54,24.45 -2.54,-25.4 2.54,-25.4 2.54,25.4 -1.59,25.4 -2.54,24.45
  text "'.Designator'" at 0.84,-4.047 h1
Top Courtyard:
  lines w0.254: -5.87,-25.9 5.88,-25.9 5.88,25.9 -5.87,25.9 -5.87,-25.9
Top Designator:
  text ".Designator" at -7.613,-0.508 h1.52

## PinHeader_2x21_P2.54mm_Horizontal [mm]
pads (42):
  rect 1.7x1.7 hole 1: 1(0,0)
  round 1.7 hole 1: 2(2.54,0) 3(0,-2.54) 4(2.54,-2.54) 5(0,-5.08) 6(2.54,-5.08) 7(0,-7.62) 8(2.54,-7.62) 9(0,-10.16) 10(2.54,-10.16) 11(0,-12.7) 12(2.54,-12.7) 13(0,-15.24) 14(2.54,-15.24) 15(0,-17.78) 16(2.54,-17.78) 17(0,-20.32) 18(2.54,-20.32) 19(0,-22.86) 20(2.54,-22.86) 21(0,-25.4) 22(2.54,-25.4) 23(0,-27.94) 24(2.54,-27.94) 25(0,-30.48) 26(2.54,-30.48) 27(0,-33.02) 28(2.54,-33.02) 29(0,-35.56) 30(2.54,-35.56) 31(0,-38.1) 32(2.54,-38.1) 33(0,-40.64) 34(2.54,-40.64) 35(0,-43.18) 36(2.54,-43.18) 37(0,-45.72) 38(2.54,-45.72) 39(0,-48.26) 40(2.54,-48.26) 41(0,-50.8) 42(2.54,-50.8)
F.SilkS:
  drawing of 174 lines, arcs and shapes, not listed
Top Assembly:
  lines w0.254: 4.04,-51.12 -0.32,-51.12 -0.32,-50.48 4.04,-50.48 ; 4.04,-48.58 -0.32,-48.58 -0.32,-47.94 4.04,-47.94 ; 4.04,-46.04 -0.32,-46.04 -0.32,-45.4 4.04,-45.4 ; 4.04,-43.5 -0.32,-43.5 -0.32,-42.86 4.04,-42.86 ; 4.04,-40.96 -0.32,-40.96 -0.32,-40.32 4.04,-40.32 ; 4.04,-38.42 -0.32,-38.42 -0.32,-37.78 4.04,-37.78 ; 4.04,-35.88 -0.32,-35.88 -0.32,-35.24 4.04,-35.24 ; 4.04,-33.34 -0.32,-33.34 -0.32,-32.7 4.04,-32.7 ; 4.04,-30.8 -0.32,-30.8 -0.32,-30.16 4.04,-30.16 ; 4.04,-28.26 -0.32,-28.26 -0.32,-27.62 4.04,-27.62 ; 4.04,-25.72 -0.32,-25.72 -0.32,-25.08 4.04,-25.08 ; 4.04,-23.18 -0.32,-23.18 -0.32,-22.54 4.04,-22.54 ; 4.04,-20.64 -0.32,-20.64 -0.32,-20 4.04,-20 ; 4.04,-18.1 -0.32,-18.1 -0.32,-17.46 4.04,-17.46 ; 4.04,-15.56 -0.32,-15.56 -0.32,-14.92 4.04,-14.92 ; 4.04,-13.02 -0.32,-13.02 -0.32,-12.38 4.04,-12.38 ; 4.04,-10.48 -0.32,-10.48 -0.32,-9.84 4.04,-9.84 ; 4.04,-7.94 -0.32,-7.94 -0.32,-7.3 4.04,-7.3 ; 4.04,-5.4 -0.32,-5.4 -0.32,-4.76 4.04,-4.76 ; 4.04,-2.86 -0.32,-2.86 -0.32,-2.22 4.04,-2.22 ; 4.04,-0.32 -0.32,-0.32 -0.32,0.32 4.04,0.32 ; 6.58,-51.12 12.58,-51.12 12.58,-50.48 6.58,-50.48 ; 6.58,-48.58 12.58,-48.58 12.58,-47.94 6.58,-47.94 ; 6.58,-46.04 12.58,-46.04 12.58,-45.4 6.58,-45.4 ; 6.58,-43.5 12.58,-43.5 12.58,-42.86 6.58,-42.86 ; 6.58,-40.96 12.58,-40.96 12.58,-40.32 6.58,-40.32 ; 6.58,-38.42 12.58,-38.42 12.58,-37.78 6.58,-37.78 ; 6.58,-35.88 12.58,-35.88 12.58,-35.24 6.58,-35.24 ; 6.58,-33.34 12.58,-33.34 12.58,-32.7 6.58,-32.7 ; 6.58,-30.8 12.58,-30.8 12.58,-30.16 6.58,-30.16 ; 6.58,-28.26 12.58,-28.26 12.58,-27.62 6.58,-27.62 ; 6.58,-25.72 12.58,-25.72 12.58,-25.08 6.58,-25.08 ; 6.58,-23.18 12.58,-23.18 12.58,-22.54 6.58,-22.54 ; 6.58,-20.64 12.58,-20.64 12.58,-20 6.58,-20 ; 6.58,-18.1 12.58,-18.1 12.58,-17.46 6.58,-17.46 ; 6.58,-15.56 12.58,-15.56 12.58,-14.92 6.58,-14.92 ; 6.58,-13.02 12.58,-13.02 12.58,-12.38 6.58,-12.38 ; 6.58,-10.48 12.58,-10.48 12.58,-9.84 6.58,-9.84 ; 6.58,-7.94 12.58,-7.94 12.58,-7.3 6.58,-7.3 ; 6.58,-5.4 12.58,-5.4 12.58,-4.76 6.58,-4.76 ; 6.58,-2.86 12.58,-2.86 12.58,-2.22 6.58,-2.22 ; 6.58,-0.32 12.58,-0.32 12.58,0.32 6.58,0.32 ; 4.04,-52.07 6.58,-52.07 6.58,1.27 4.675,1.27 4.04,0.635 4.04,-52.07
  text "'.Designator'" at 6.15,-29.447 h1
Top Courtyard:
  lines w0.254: -1.77,-52.57 13.09,-52.57 13.09,1.77 -1.77,1.77 -1.77,-52.57
Top Designator:
  text ".Designator" at -1.958,-25.908 h1.52

## PinHeader_2x21_P2.54mm_Vertical [mm]
pads (42):
  rect 1.7x1.7 hole 1: 1(0,0)
  round 1.7 hole 1: 2(2.54,0) 3(0,-2.54) 4(2.54,-2.54) 5(0,-5.08) 6(2.54,-5.08) 7(0,-7.62) 8(2.54,-7.62) 9(0,-10.16) 10(2.54,-10.16) 11(0,-12.7) 12(2.54,-12.7) 13(0,-15.24) 14(2.54,-15.24) 15(0,-17.78) 16(2.54,-17.78) 17(0,-20.32) 18(2.54,-20.32) 19(0,-22.86) 20(2.54,-22.86) 21(0,-25.4) 22(2.54,-25.4) 23(0,-27.94) 24(2.54,-27.94) 25(0,-30.48) 26(2.54,-30.48) 27(0,-33.02) 28(2.54,-33.02) 29(0,-35.56) 30(2.54,-35.56) 31(0,-38.1) 32(2.54,-38.1) 33(0,-40.64) 34(2.54,-40.64) 35(0,-43.18) 36(2.54,-43.18) 37(0,-45.72) 38(2.54,-45.72) 39(0,-48.26) 40(2.54,-48.26) 41(0,-50.8) 42(2.54,-50.8)
F.SilkS:
  lines w0.254: -1.38,0 -1.38,1.38 0,1.38 ; -1.38,-52.18 3.92,-52.18 3.92,1.38 1.27,1.38 1.27,-1.27 -1.38,-1.27 -1.38,-52.18
Top Assembly:
  lines w0.254: -1.27,-52.07 3.81,-52.07 3.81,1.27 0,1.27 -1.27,0 -1.27,-52.07
  text "'.Designator'" at 2.11,-29.447 h1
Top Courtyard:
  lines w0.254: -1.77,-52.57 4.32,-52.57 4.32,1.78 -1.77,1.78 -1.77,-52.57
Top Designator:
  text ".Designator" at -6.343,-25.903 h1.52

## PinHeader_2x21_P2.54mm_Vertical_SMD [mm]
pads (42):
  rect 3.15x1 smd: 1(-2.525,25.4) 2(2.525,25.4) 3(-2.525,22.86) 4(2.525,22.86) 5(-2.525,20.32) 6(2.525,20.32) 7(-2.525,17.78) 8(2.525,17.78) 9(-2.525,15.24) 10(2.525,15.24) 11(-2.525,12.7) 12(2.525,12.7) 13(-2.525,10.16) 14(2.525,10.16) 15(-2.525,7.62) 16(2.525,7.62) 17(-2.525,5.08) 18(2.525,5.08) 19(-2.525,2.54) 20(2.525,2.54) 21(-2.525,0) 22(2.525,0) 23(-2.525,-2.54) 24(2.525,-2.54) 25(-2.525,-5.08) 26(2.525,-5.08) 27(-2.525,-7.62) 28(2.525,-7.62) 29(-2.525,-10.16) 30(2.525,-10.16) 31(-2.525,-12.7) 32(2.525,-12.7) 33(-2.525,-15.24) 34(2.525,-15.24) 35(-2.525,-17.78) 36(2.525,-17.78) 37(-2.525,-20.32) 38(2.525,-20.32) 39(-2.525,-22.86) 40(2.525,-22.86) 41(-2.525,-25.4) 42(2.525,-25.4)
F.SilkS:
  lines w0.254: -4.04,26.21 -2.65,26.21 -2.65,26.78 2.65,26.78 2.65,26.21 ; -2.65,-26.21 -2.65,-26.78 2.65,-26.78 2.65,-26.21 ; -2.65,-24.59 -2.65,-23.67 ; -2.65,-22.05 -2.65,-21.13 ; -2.65,-19.51 -2.65,-18.59 ; -2.65,-16.97 -2.65,-16.05 ; -2.65,-14.43 -2.65,-13.51 ; -2.65,-11.89 -2.65,-10.97 ; -2.65,-9.35 -2.65,-8.43 ; -2.65,-6.81 -2.65,-5.89 ; -2.65,-4.27 -2.65,-3.35 ; -2.65,-1.73 -2.65,-0.81 ; -2.65,0.81 -2.65,1.73 ; -2.65,3.35 -2.65,4.27 ; -2.65,5.89 -2.65,6.81 ; -2.65,8.43 -2.65,9.35 ; -2.65,10.97 -2.65,11.89 ; -2.65,13.51 -2.65,14.43 ; -2.65,16.05 -2.65,16.97 ; -2.65,18.59 -2.65,19.51 ; -2.65,21.13 -2.65,22.05 ; -2.65,23.67 -2.65,24.59 ; 2.65,-24.59 2.65,-23.67 ; 2.65,-22.05 2.65,-21.13 ; 2.65,-19.51 2.65,-18.59 ; 2.65,-16.97 2.65,-16.05 ; 2.65,-14.43 2.65,-13.51 ; 2.65,-11.89 2.65,-10.97 ; 2.65,-9.35 2.65,-8.43 ; 2.65,-6.81 2.65,-5.89 ; 2.65,-4.27 2.65,-3.35 ; 2.65,-1.73 2.65,-0.81 ; 2.65,0.81 2.65,1.73 ; 2.65,3.35 2.65,4.27 ; 2.65,5.89 2.65,6.81 ; 2.65,8.43 2.65,9.35 ; 2.65,10.97 2.65,11.89 ; 2.65,13.51 2.65,14.43 ; 2.65,16.05 2.65,16.97 ; 2.65,18.59 2.65,19.51 ; 2.65,21.13 2.65,22.05 ; 2.65,23.67 2.65,24.59
Top Assembly:
  lines w0.254: -2.54,-25.72 -3.6,-25.72 -3.6,-25.08 -2.54,-25.08 ; -2.54,-23.18 -3.6,-23.18 -3.6,-22.54 -2.54,-22.54 ; -2.54,-20.64 -3.6,-20.64 -3.6,-20 -2.54,-20 ; -2.54,-18.1 -3.6,-18.1 -3.6,-17.46 -2.54,-17.46 ; -2.54,-15.56 -3.6,-15.56 -3.6,-14.92 -2.54,-14.92 ; -2.54,-13.02 -3.6,-13.02 -3.6,-12.38 -2.54,-12.38 ; -2.54,-10.48 -3.6,-10.48 -3.6,-9.84 -2.54,-9.84 ; -2.54,-7.94 -3.6,-7.94 -3.6,-7.3 -2.54,-7.3 ; -2.54,-5.4 -3.6,-5.4 -3.6,-4.76 -2.54,-4.76 ; -2.54,-2.86 -3.6,-2.86 -3.6,-2.22 -2.54,-2.22 ; -2.54,-0.32 -3.6,-0.32 -3.6,0.32 -2.54,0.32 ; -2.54,2.22 -3.6,2.22 -3.6,2.86 -2.54,2.86 ; -2.54,4.76 -3.6,4.76 -3.6,5.4 -2.54,5.4 ; -2.54,7.3 -3.6,7.3 -3.6,7.94 -2.54,7.94 ; -2.54,9.84 -3.6,9.84 -3.6,10.48 -2.54,10.48 ; -2.54,12.38 -3.6,12.38 -3.6,13.02 -2.54,13.02 ; -2.54,14.92 -3.6,14.92 -3.6,15.56 -2.54,15.56 ; -2.54,17.46 -3.6,17.46 -3.6,18.1 -2.54,18.1 ; -2.54,20 -3.6,20 -3.6,20.64 -2.54,20.64 ; -2.54,22.54 -3.6,22.54 -3.6,23.18 -2.54,23.18 ; -2.54,25.08 -3.6,25.08 -3.6,25.72 -2.54,25.72 ; 2.54,-25.72 3.6,-25.72 3.6,-25.08 2.54,-25.08 ; 2.54,-23.18 3.6,-23.18 3.6,-22.54 2.54,-22.54 ; 2.54,-20.64 3.6,-20.64 3.6,-20 2.54,-20 ; 2.54,-18.1 3.6,-18.1 3.6,-17.46 2.54,-17.46 ; 2.54,-15.56 3.6,-15.56 3.6,-14.92 2.54,-14.92 ; 2.54,-13.02 3.6,-13.02 3.6,-12.38 2.54,-12.38 ; 2.54,-10.48 3.6,-10.48 3.6,-9.84 2.54,-9.84 ; 2.54,-7.94 3.6,-7.94 3.6,-7.3 2.54,-7.3 ; 2.54,-5.4 3.6,-5.4 3.6,-4.76 2.54,-4.76 ; 2.54,-2.86 3.6,-2.86 3.6,-2.22 2.54,-2.22 ; 2.54,-0.32 3.6,-0.32 3.6,0.32 2.54,0.32 ; 2.54,2.22 3.6,2.22 3.6,2.86 2.54,2.86 ; 2.54,4.76 3.6,4.76 3.6,5.4 2.54,5.4 ; 2.54,7.3 3.6,7.3 3.6,7.94 2.54,7.94 ; 2.54,9.84 3.6,9.84 3.6,10.48 2.54,10.48 ; 2.54,12.38 3.6,12.38 3.6,13.02 2.54,13.02 ; 2.54,14.92 3.6,14.92 3.6,15.56 2.54,15.56 ; 2.54,17.46 3.6,17.46 3.6,18.1 2.54,18.1 ; 2.54,20 3.6,20 3.6,20.64 2.54,20.64 ; 2.54,22.54 3.6,22.54 3.6,23.18 2.54,23.18 ; 2.54,25.08 3.6,25.08 3.6,25.72 2.54,25.72 ; -2.54,25.72 -2.54,-26.67 2.54,-26.67 2.54,26.67 -1.59,26.67 -2.54,25.72
  text "'.Designator'" at 0.84,-4.047 h1
Top Courtyard:
  lines w0.254: -5.87,-27.17 5.88,-27.17 5.88,27.17 -5.87,27.17 -5.87,-27.17
Top Designator:
  text ".Designator" at -7.613,-0.508 h1.52

## PinHeader_2x22_P2.54mm_Horizontal [mm]
pads (44):
  rect 1.7x1.7 hole 1: 1(0,0)
  round 1.7 hole 1: 2(2.54,0) 3(0,-2.54) 4(2.54,-2.54) 5(0,-5.08) 6(2.54,-5.08) 7(0,-7.62) 8(2.54,-7.62) 9(0,-10.16) 10(2.54,-10.16) 11(0,-12.7) 12(2.54,-12.7) 13(0,-15.24) 14(2.54,-15.24) 15(0,-17.78) 16(2.54,-17.78) 17(0,-20.32) 18(2.54,-20.32) 19(0,-22.86) 20(2.54,-22.86) 21(0,-25.4) 22(2.54,-25.4) 23(0,-27.94) 24(2.54,-27.94) 25(0,-30.48) 26(2.54,-30.48) 27(0,-33.02) 28(2.54,-33.02) 29(0,-35.56) 30(2.54,-35.56) 31(0,-38.1) 32(2.54,-38.1) 33(0,-40.64) 34(2.54,-40.64) 35(0,-43.18) 36(2.54,-43.18) 37(0,-45.72) 38(2.54,-45.72) 39(0,-48.26) 40(2.54,-48.26) 41(0,-50.8) 42(2.54,-50.8) 43(0,-53.34) 44(2.54,-53.34)
F.SilkS:
  drawing of 182 lines, arcs and shapes, not listed
Top Assembly:
  lines w0.254: 4.04,-53.66 -0.32,-53.66 -0.32,-53.02 4.04,-53.02 ; 4.04,-51.12 -0.32,-51.12 -0.32,-50.48 4.04,-50.48 ; 4.04,-48.58 -0.32,-48.58 -0.32,-47.94 4.04,-47.94 ; 4.04,-46.04 -0.32,-46.04 -0.32,-45.4 4.04,-45.4 ; 4.04,-43.5 -0.32,-43.5 -0.32,-42.86 4.04,-42.86 ; 4.04,-40.96 -0.32,-40.96 -0.32,-40.32 4.04,-40.32 ; 4.04,-38.42 -0.32,-38.42 -0.32,-37.78 4.04,-37.78 ; 4.04,-35.88 -0.32,-35.88 -0.32,-35.24 4.04,-35.24 ; 4.04,-33.34 -0.32,-33.34 -0.32,-32.7 4.04,-32.7 ; 4.04,-30.8 -0.32,-30.8 -0.32,-30.16 4.04,-30.16 ; 4.04,-28.26 -0.32,-28.26 -0.32,-27.62 4.04,-27.62 ; 4.04,-25.72 -0.32,-25.72 -0.32,-25.08 4.04,-25.08 ; 4.04,-23.18 -0.32,-23.18 -0.32,-22.54 4.04,-22.54 ; 4.04,-20.64 -0.32,-20.64 -0.32,-20 4.04,-20 ; 4.04,-18.1 -0.32,-18.1 -0.32,-17.46 4.04,-17.46 ; 4.04,-15.56 -0.32,-15.56 -0.32,-14.92 4.04,-14.92 ; 4.04,-13.02 -0.32,-13.02 -0.32,-12.38 4.04,-12.38 ; 4.04,-10.48 -0.32,-10.48 -0.32,-9.84 4.04,-9.84 ; 4.04,-7.94 -0.32,-7.94 -0.32,-7.3 4.04,-7.3 ; 4.04,-5.4 -0.32,-5.4 -0.32,-4.76 4.04,-4.76 ; 4.04,-2.86 -0.32,-2.86 -0.32,-2.22 4.04,-2.22 ; 4.04,-0.32 -0.32,-0.32 -0.32,0.32 4.04,0.32 ; 6.58,-53.66 12.58,-53.66 12.58,-53.02 6.58,-53.02 ; 6.58,-51.12 12.58,-51.12 12.58,-50.48 6.58,-50.48 ; 6.58,-48.58 12.58,-48.58 12.58,-47.94 6.58,-47.94 ; 6.58,-46.04 12.58,-46.04 12.58,-45.4 6.58,-45.4 ; 6.58,-43.5 12.58,-43.5 12.58,-42.86 6.58,-42.86 ; 6.58,-40.96 12.58,-40.96 12.58,-40.32 6.58,-40.32 ; 6.58,-38.42 12.58,-38.42 12.58,-37.78 6.58,-37.78 ; 6.58,-35.88 12.58,-35.88 12.58,-35.24 6.58,-35.24 ; 6.58,-33.34 12.58,-33.34 12.58,-32.7 6.58,-32.7 ; 6.58,-30.8 12.58,-30.8 12.58,-30.16 6.58,-30.16 ; 6.58,-28.26 12.58,-28.26 12.58,-27.62 6.58,-27.62 ; 6.58,-25.72 12.58,-25.72 12.58,-25.08 6.58,-25.08 ; 6.58,-23.18 12.58,-23.18 12.58,-22.54 6.58,-22.54 ; 6.58,-20.64 12.58,-20.64 12.58,-20 6.58,-20 ; 6.58,-18.1 12.58,-18.1 12.58,-17.46 6.58,-17.46 ; 6.58,-15.56 12.58,-15.56 12.58,-14.92 6.58,-14.92 ; 6.58,-13.02 12.58,-13.02 12.58,-12.38 6.58,-12.38 ; 6.58,-10.48 12.58,-10.48 12.58,-9.84 6.58,-9.84 ; 6.58,-7.94 12.58,-7.94 12.58,-7.3 6.58,-7.3 ; 6.58,-5.4 12.58,-5.4 12.58,-4.76 6.58,-4.76 ; 6.58,-2.86 12.58,-2.86 12.58,-2.22 6.58,-2.22 ; 6.58,-0.32 12.58,-0.32 12.58,0.32 6.58,0.32 ; 4.04,-54.61 6.58,-54.61 6.58,1.27 4.675,1.27 4.04,0.635 4.04,-54.61
  text "'.Designator'" at 6.15,-30.717 h1
Top Courtyard:
  lines w0.254: -1.77,-55.12 13.09,-55.12 13.09,1.77 -1.77,1.77 -1.77,-55.12
Top Designator:
  text ".Designator" at -1.958,-27.183 h1.52

## PinHeader_2x22_P2.54mm_Vertical [mm]
pads (44):
  rect 1.7x1.7 hole 1: 1(0,0)
  round 1.7 hole 1: 2(2.54,0) 3(0,-2.54) 4(2.54,-2.54) 5(0,-5.08) 6(2.54,-5.08) 7(0,-7.62) 8(2.54,-7.62) 9(0,-10.16) 10(2.54,-10.16) 11(0,-12.7) 12(2.54,-12.7) 13(0,-15.24) 14(2.54,-15.24) 15(0,-17.78) 16(2.54,-17.78) 17(0,-20.32) 18(2.54,-20.32) 19(0,-22.86) 20(2.54,-22.86) 21(0,-25.4) 22(2.54,-25.4) 23(0,-27.94) 24(2.54,-27.94) 25(0,-30.48) 26(2.54,-30.48) 27(0,-33.02) 28(2.54,-33.02) 29(0,-35.56) 30(2.54,-35.56) 31(0,-38.1) 32(2.54,-38.1) 33(0,-40.64) 34(2.54,-40.64) 35(0,-43.18) 36(2.54,-43.18) 37(0,-45.72) 38(2.54,-45.72) 39(0,-48.26) 40(2.54,-48.26) 41(0,-50.8) 42(2.54,-50.8) 43(0,-53.34) 44(2.54,-53.34)
F.SilkS:
  lines w0.254: -1.38,0 -1.38,1.38 0,1.38 ; -1.38,-54.72 3.92,-54.72 3.92,1.38 1.27,1.38 1.27,-1.27 -1.38,-1.27 -1.38,-54.72
Top Assembly:
  lines w0.254: -1.27,-54.61 3.81,-54.61 3.81,1.27 0,1.27 -1.27,0 -1.27,-54.61
  text "'.Designator'" at 2.11,-30.717 h1
Top Courtyard:
  lines w0.254: -1.77,-55.12 4.32,-55.12 4.32,1.78 -1.77,1.78 -1.77,-55.12
Top Designator:
  text ".Designator" at -6.343,-27.178 h1.52

## PinHeader_2x22_P2.54mm_Vertical_SMD [mm]
pads (44):
  rect 3.15x1 smd: 1(-2.525,26.67) 2(2.525,26.67) 3(-2.525,24.13) 4(2.525,24.13) 5(-2.525,21.59) 6(2.525,21.59) 7(-2.525,19.05) 8(2.525,19.05) 9(-2.525,16.51) 10(2.525,16.51) 11(-2.525,13.97) 12(2.525,13.97) 13(-2.525,11.43) 14(2.525,11.43) 15(-2.525,8.89) 16(2.525,8.89) 17(-2.525,6.35) 18(2.525,6.35) 19(-2.525,3.81) 20(2.525,3.81) 21(-2.525,1.27) 22(2.525,1.27) 23(-2.525,-1.27) 24(2.525,-1.27) 25(-2.525,-3.81) 26(2.525,-3.81) 27(-2.525,-6.35) 28(2.525,-6.35) 29(-2.525,-8.89) 30(2.525,-8.89) 31(-2.525,-11.43) 32(2.525,-11.43) 33(-2.525,-13.97) 34(2.525,-13.97) 35(-2.525,-16.51) 36(2.525,-16.51) 37(-2.525,-19.05) 38(2.525,-19.05) 39(-2.525,-21.59) 40(2.525,-21.59) 41(-2.525,-24.13) 42(2.525,-24.13) 43(-2.525,-26.67) 44(2.525,-26.67)
F.SilkS:
  lines w0.254: -4.04,27.48 -2.65,27.48 -2.65,28.05 2.65,28.05 2.65,27.48 ; -2.65,-27.48 -2.65,-28.05 2.65,-28.05 2.65,-27.48 ; -2.65,-25.86 -2.65,-24.94 ; -2.65,-23.32 -2.65,-22.4 ; -2.65,-20.78 -2.65,-19.86 ; -2.65,-18.24 -2.65,-17.32 ; -2.65,-15.7 -2.65,-14.78 ; -2.65,-13.16 -2.65,-12.24 ; -2.65,-10.62 -2.65,-9.7 ; -2.65,-8.08 -2.65,-7.16 ; -2.65,-5.54 -2.65,-4.62 ; -2.65,-3 -2.65,-2.08 ; -2.65,-0.46 -2.65,0.46 ; -2.65,2.08 -2.65,3 ; -2.65,4.62 -2.65,5.54 ; -2.65,7.16 -2.65,8.08 ; -2.65,9.7 -2.65,10.62 ; -2.65,12.24 -2.65,13.16 ; -2.65,14.78 -2.65,15.7 ; -2.65,17.32 -2.65,18.24 ; -2.65,19.86 -2.65,20.78 ; -2.65,22.4 -2.65,23.32 ; -2.65,24.94 -2.65,25.86 ; 2.65,-25.86 2.65,-24.94 ; 2.65,-23.32 2.65,-22.4 ; 2.65,-20.78 2.65,-19.86 ; 2.65,-18.24 2.65,-17.32 ; 2.65,-15.7 2.65,-14.78 ; 2.65,-13.16 2.65,-12.24 ; 2.65,-10.62 2.65,-9.7 ; 2.65,-8.08 2.65,-7.16 ; 2.65,-5.54 2.65,-4.62 ; 2.65,-3 2.65,-2.08 ; 2.65,-0.46 2.65,0.46 ; 2.65,2.08 2.65,3 ; 2.65,4.62 2.65,5.54 ; 2.65,7.16 2.65,8.08 ; 2.65,9.7 2.65,10.62 ; 2.65,12.24 2.65,13.16 ; 2.65,14.78 2.65,15.7 ; 2.65,17.32 2.65,18.24 ; 2.65,19.86 2.65,20.78 ; 2.65,22.4 2.65,23.32 ; 2.65,24.94 2.65,25.86
Top Assembly:
  lines w0.254: -2.54,-26.99 -3.6,-26.99 -3.6,-26.35 -2.54,-26.35 ; -2.54,-24.45 -3.6,-24.45 -3.6,-23.81 -2.54,-23.81 ; -2.54,-21.91 -3.6,-21.91 -3.6,-21.27 -2.54,-21.27 ; -2.54,-19.37 -3.6,-19.37 -3.6,-18.73 -2.54,-18.73 ; -2.54,-16.83 -3.6,-16.83 -3.6,-16.19 -2.54,-16.19 ; -2.54,-14.29 -3.6,-14.29 -3.6,-13.65 -2.54,-13.65 ; -2.54,-11.75 -3.6,-11.75 -3.6,-11.11 -2.54,-11.11 ; -2.54,-9.21 -3.6,-9.21 -3.6,-8.57 -2.54,-8.57 ; -2.54,-6.67 -3.6,-6.67 -3.6,-6.03 -2.54,-6.03 ; -2.54,-4.13 -3.6,-4.13 -3.6,-3.49 -2.54,-3.49 ; -2.54,-1.59 -3.6,-1.59 -3.6,-0.95 -2.54,-0.95 ; -2.54,0.95 -3.6,0.95 -3.6,1.59 -2.54,1.59 ; -2.54,3.49 -3.6,3.49 -3.6,4.13 -2.54,4.13 ; -2.54,6.03 -3.6,6.03 -3.6,6.67 -2.54,6.67 ; -2.54,8.57 -3.6,8.57 -3.6,9.21 -2.54,9.21 ; -2.54,11.11 -3.6,11.11 -3.6,11.75 -2.54,11.75 ; -2.54,13.65 -3.6,13.65 -3.6,14.29 -2.54,14.29 ; -2.54,16.19 -3.6,16.19 -3.6,16.83 -2.54,16.83 ; -2.54,18.73 -3.6,18.73 -3.6,19.37 -2.54,19.37 ; -2.54,21.27 -3.6,21.27 -3.6,21.91 -2.54,21.91 ; -2.54,23.81 -3.6,23.81 -3.6,24.45 -2.54,24.45 ; -2.54,26.35 -3.6,26.35 -3.6,26.99 -2.54,26.99 ; 2.54,-26.99 3.6,-26.99 3.6,-26.35 2.54,-26.35 ; 2.54,-24.45 3.6,-24.45 3.6,-23.81 2.54,-23.81 ; 2.54,-21.91 3.6,-21.91 3.6,-21.27 2.54,-21.27 ; 2.54,-19.37 3.6,-19.37 3.6,-18.73 2.54,-18.73 ; 2.54,-16.83 3.6,-16.83 3.6,-16.19 2.54,-16.19 ; 2.54,-14.29 3.6,-14.29 3.6,-13.65 2.54,-13.65 ; 2.54,-11.75 3.6,-11.75 3.6,-11.11 2.54,-11.11 ; 2.54,-9.21 3.6,-9.21 3.6,-8.57 2.54,-8.57 ; 2.54,-6.67 3.6,-6.67 3.6,-6.03 2.54,-6.03 ; 2.54,-4.13 3.6,-4.13 3.6,-3.49 2.54,-3.49 ; 2.54,-1.59 3.6,-1.59 3.6,-0.95 2.54,-0.95 ; 2.54,0.95 3.6,0.95 3.6,1.59 2.54,1.59 ; 2.54,3.49 3.6,3.49 3.6,4.13 2.54,4.13 ; 2.54,6.03 3.6,6.03 3.6,6.67 2.54,6.67 ; 2.54,8.57 3.6,8.57 3.6,9.21 2.54,9.21 ; 2.54,11.11 3.6,11.11 3.6,11.75 2.54,11.75 ; 2.54,13.65 3.6,13.65 3.6,14.29 2.54,14.29 ; 2.54,16.19 3.6,16.19 3.6,16.83 2.54,16.83 ; 2.54,18.73 3.6,18.73 3.6,19.37 2.54,19.37 ; 2.54,21.27 3.6,21.27 3.6,21.91 2.54,21.91 ; 2.54,23.81 3.6,23.81 3.6,24.45 2.54,24.45 ; 2.54,26.35 3.6,26.35 3.6,26.99 2.54,26.99 ; -2.54,26.99 -2.54,-27.94 2.54,-27.94 2.54,27.94 -1.59,27.94 -2.54,26.99
  text "'.Designator'" at 0.84,-4.047 h1
Top Courtyard:
  lines w0.254: -5.87,-28.45 5.88,-28.45 5.88,28.45 -5.87,28.45 -5.87,-28.45
Top Designator:
  text ".Designator" at -7.613,-0.508 h1.52